# Altium footprint library EIA.TO,SOT.PcbLib: 17 footprints (part 1 of 2)
Each footprint in its own frame and in the unit in brackets; x right, y up, seen from the top. Pads: shape width x height; smd on the part's side, far side on the other; paste and mask are expansions set on the pad; w line width, h text height; cw(c..) or ccw(c..) is an arc to the next point about the centre after c.
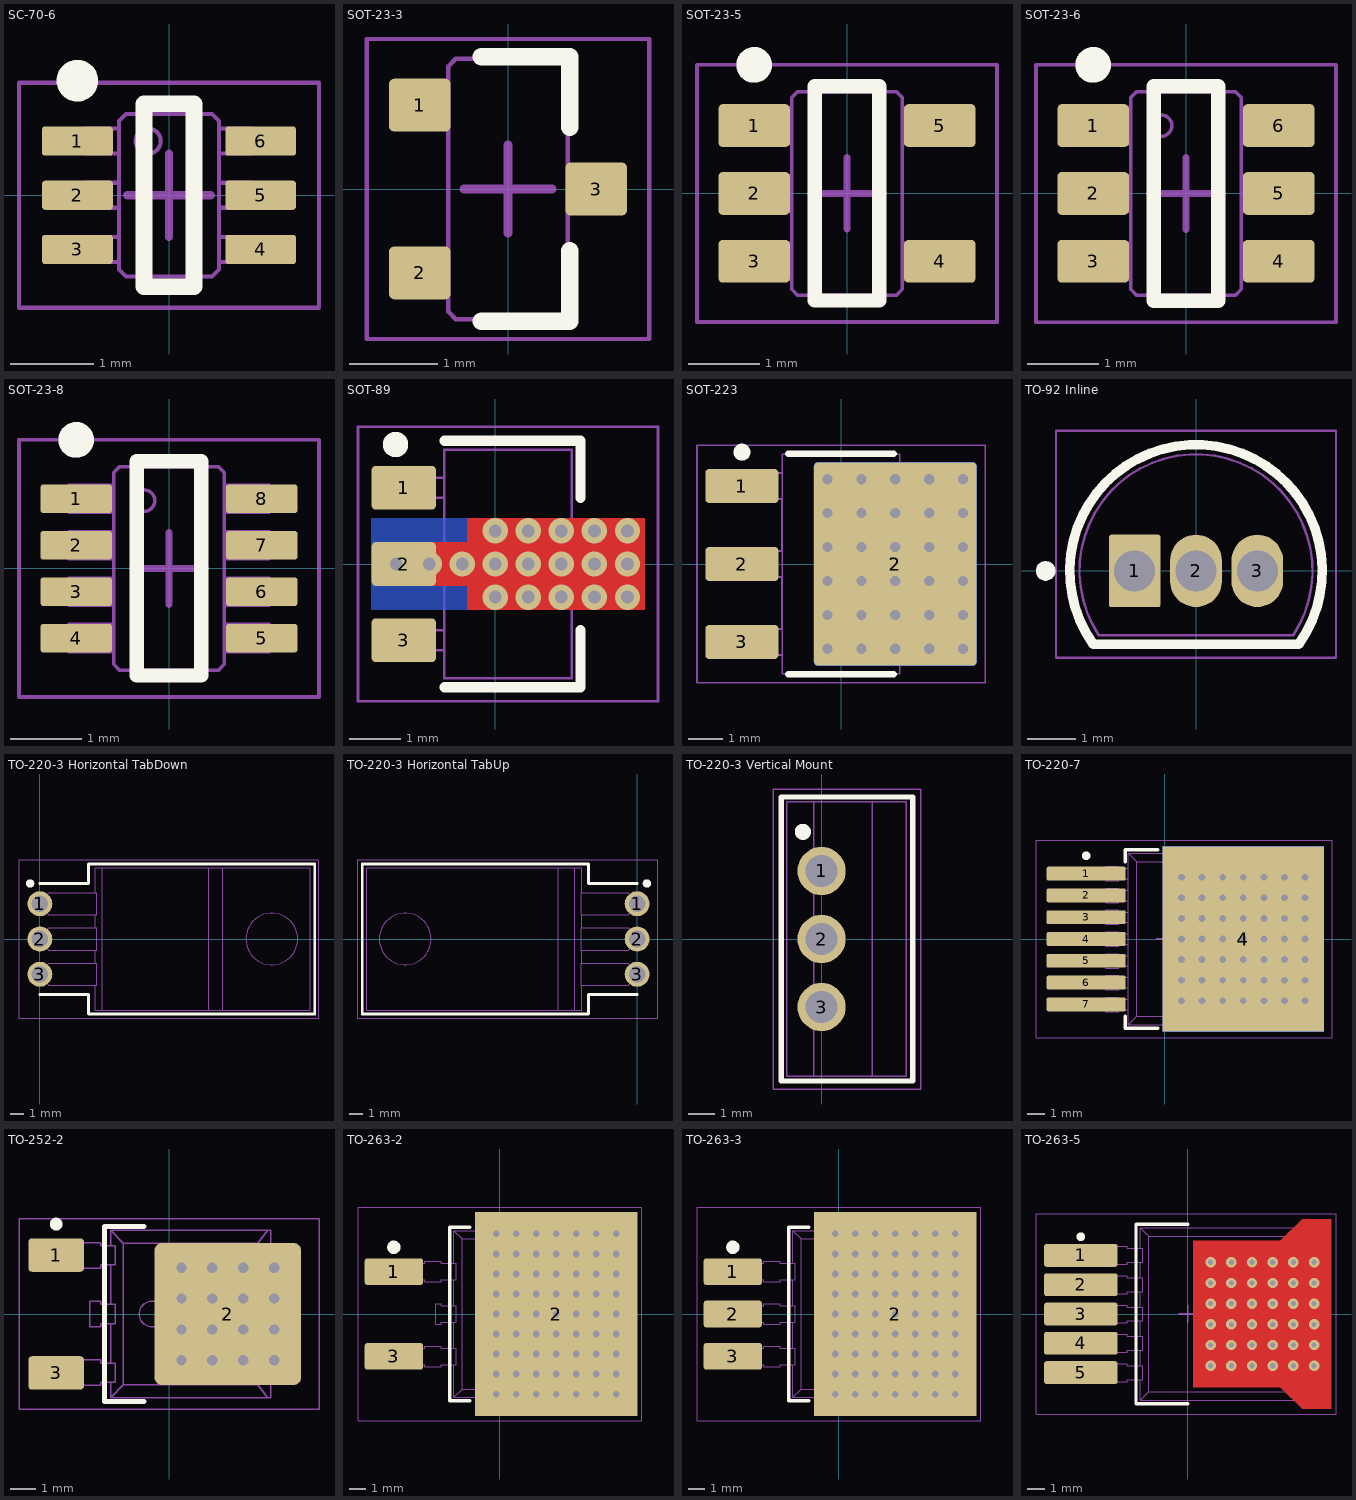
[diagram p0: the footprints below, top view; thin cyan lines are the x and y axes]

## SC-70-6 [mm] "SC70, 6-Leads, Body 2.00x1.25mm, Pitch 0.65mm, IPC Medium Density"
height 1.1
pads (6):
  rrect20% 0.85x0.35 smd: 1(-1.1,0.65) 2(-1.1,0) 3(-1.1,-0.65) 4(1.1,-0.65) 5(1.1,0) 6(1.1,0.65)
Top Overlay:
  circle w0.25: c-1.1,1.375 r0.125
  lines w0.2: -0.3,-1.1 0.3,-1.1 0.3,1.1 -0.3,1.1 -0.3,-1.1
Mechanical 1:
  circle w0.05: c-0.25,0.65 r0.15
  lines w0.05: -0.6,-0.8 -1,-0.8 -1,-0.5 -0.6,-0.5 ; -0.6,-0.15 -1,-0.15 -1,0.15 -0.6,0.15 ; -0.6,0.5 -1,0.5 -1,0.8 -0.6,0.8 ; 0.6,-0.8 1,-0.8 1,-0.5 0.6,-0.5 ; 0.6,-0.15 1,-0.15 1,0.15 0.6,0.15 ; 0.6,0.5 1,0.5 1,0.8 0.6,0.8 ; -0.6,-0.893 -0.517,-0.975 0.517,-0.975 0.6,-0.893 0.6,0.893 0.517,0.975 -0.517,0.975 -0.6,0.893 -0.6,-0.893
Mechanical 15:
  lines w0.05: -1.8,-1.35 1.8,-1.35 1.8,1.35 -1.8,1.35 -1.8,-1.35
  lines w0.1: -0.5,0 0.5,0 ; 0,-0.5 0,0.5
3D body "SOT-363_SC-70-6.step": height 1.05, standoff 0, extent -1,-1 1,1

## SOT-23-3 [mm] "SOT-23, 3-Leads, Body 2.90x2.30mm, Pitch 0.95mm, IPC Medium Density"
height 1.1
pads (3):
  rrect20% 0.7x0.6 smd: 1(-1,0.95) 2(-1,-0.95) 3(1,0)
Top Overlay:
  lines w0.2: -0.3,-1.5 0.7,-1.5 0.7,-0.7 ; -0.3,1.5 0.7,1.5 0.7,0.7
Mechanical 1:
  lines w0.05: -0.675,-1.15 -1.25,-1.15 -1.25,-0.75 -0.675,-0.75 ; -0.675,0.75 -1.25,0.75 -1.25,1.15 -0.675,1.15 ; 0.675,-0.2 1.25,-0.2 1.25,0.2 0.675,0.2 ; -0.675,-1.392 -0.675,1.392 -0.593,1.475 0.593,1.475 0.675,1.392 0.675,-1.392 0.593,-1.475 -0.593,-1.475 -0.675,-1.392
Mechanical 15:
  lines w0.05: -1.6,-1.7 1.6,-1.7 1.6,1.7 -1.6,1.7 -1.6,-1.7
  lines w0.1: -0.5,0 0.5,0 ; 0,-0.5 0,0.5
3D body "SOT-23.step": height 1.2, standoff 0, extent -1.25,-1.5 1.25,1.5

## SOT-23-5 [mm] "SOT-23, 5-Leads, Body 2.90x2.80mm, Pitch 0.95mm, IPC Medium Density"
height 1.45
pads (5):
  rrect20% 1x0.6 smd: 1(-1.3,0.95) 2(-1.3,0) 3(-1.3,-0.95) 4(1.3,-0.95) 5(1.3,0.95)
Top Overlay:
  circle w0.25: c-1.3,1.8 r0.125
  lines w0.2: -0.45,-1.5 0.45,-1.5 0.45,1.5 -0.45,1.5 -0.45,-1.5
Mechanical 1:
  lines w0.05: -0.775,-1.2 -1.4,-1.2 -1.4,-0.7 -0.775,-0.7 ; -0.775,-0.25 -1.4,-0.25 -1.4,0.25 -0.775,0.25 ; -0.775,0.7 -1.4,0.7 -1.4,1.2 -0.775,1.2 ; 0.775,-1.2 1.4,-1.2 1.4,-0.7 0.775,-0.7 ; 0.775,0.7 1.4,0.7 1.4,1.2 0.775,1.2 ; -0.775,-1.342 -0.775,1.342 -0.693,1.425 0.693,1.425 0.775,1.342 0.775,-1.342 0.693,-1.425 -0.693,-1.425 -0.775,-1.342
Mechanical 15:
  lines w0.05: -2.1,-1.8 2.1,-1.8 2.1,1.8 -2.1,1.8 -2.1,-1.8
  lines w0.1: -0.5,0 0.5,0 ; 0,-0.5 0,0.5
3D body "SOT-23-5.step": height 1.55, standoff 0, extent -1.4,-1.45 1.4,1.45

## SOT-23-6 [mm] "SOT-23, 6-Leads, Body 2.90x2.80mm, Pitch 0.95mm, IPC Medium Density"
height 1.45
pads (6):
  rrect20% 1x0.6 smd: 1(-1.3,0.95) 2(-1.3,0) 3(-1.3,-0.95) 4(1.3,-0.95) 5(1.3,0) 6(1.3,0.95)
Top Overlay:
  circle w0.25: c-1.3,1.8 r0.125
  lines w0.2: -0.45,-1.5 -0.45,1.5 0.45,1.5 0.45,-1.5 -0.45,-1.5
Mechanical 1:
  circle w0.05: c-0.35,0.95 r0.15
  lines w0.05: -0.775,-1.2 -1.4,-1.2 -1.4,-0.7 -0.775,-0.7 ; -0.775,-0.25 -1.4,-0.25 -1.4,0.25 -0.775,0.25 ; -0.775,0.7 -1.4,0.7 -1.4,1.2 -0.775,1.2 ; 0.775,-1.2 1.4,-1.2 1.4,-0.7 0.775,-0.7 ; 0.775,-0.25 1.4,-0.25 1.4,0.25 0.775,0.25 ; 0.775,0.7 1.4,0.7 1.4,1.2 0.775,1.2 ; -0.775,-1.342 -0.693,-1.425 0.693,-1.425 0.775,-1.342 0.775,1.342 0.693,1.425 -0.693,1.425 -0.775,1.342 -0.775,-1.342
Mechanical 15:
  lines w0.05: -2.1,-1.8 2.1,-1.8 2.1,1.8 -2.1,1.8 -2.1,-1.8
  lines w0.1: -0.5,0 0.5,0 ; 0,-0.5 0,0.5
3D body "SOT-23-6.step": height 1.55, standoff 0, extent -1.4,-1.45 1.4,1.45

## SOT-23-8 [mm] "SOT-23, 8-Leads, Body 2.90x1.60mm, Pitch 0.65mm, IPC Medium Density"
height 1.45
pads (8):
  rrect20% 1x0.4 smd: 1(-1.3,0.975) 2(-1.3,0.325) 3(-1.3,-0.325) 4(-1.3,-0.975) 5(1.3,-0.975) 6(1.3,-0.325) 7(1.3,0.325) 8(1.3,0.975)
Top Overlay:
  circle w0.25: c-1.3,1.8 r0.125
  lines w0.2: -0.45,-1.5 -0.45,1.5 0.45,1.5 0.45,-1.5 -0.45,-1.5
Mechanical 1:
  circle w0.05: c-0.35,0.95 r0.15
  lines w0.05: -0.775,-1.165 -1.4,-1.165 -1.4,-0.785 -0.775,-0.785 ; -0.775,-0.515 -1.4,-0.515 -1.4,-0.135 -0.775,-0.135 ; -0.775,0.135 -1.4,0.135 -1.4,0.515 -0.775,0.515 ; -0.775,0.785 -1.4,0.785 -1.4,1.165 -0.775,1.165 ; 0.775,-1.165 1.4,-1.165 1.4,-0.785 0.775,-0.785 ; 0.775,-0.515 1.4,-0.515 1.4,-0.135 0.775,-0.135 ; 0.775,0.135 1.4,0.135 1.4,0.515 0.775,0.515 ; 0.775,0.785 1.4,0.785 1.4,1.165 0.775,1.165 ; -0.775,-1.342 -0.693,-1.425 0.693,-1.425 0.775,-1.342 0.775,1.342 0.693,1.425 -0.693,1.425 -0.775,1.342 -0.775,-1.342
Mechanical 15:
  lines w0.05: -2.1,-1.8 -2.1,1.8 2.1,1.8 2.1,-1.8 -2.1,-1.8
  lines w0.1: -0.5,0 0.5,0 ; 0,-0.5 0,0.5
3D body "SOT-23-8.step": height 1.2, standoff 0, extent -1.4,-1.45 1.4,1.45

## SOT-89 [mm] "SOT89, 3-Leads, Body 4.50x2.45mm, Pitch 1.50mm, Lead Span 4.1mm, IPC Medium Density"
height 1.6
pads (4):
  rrect20% 1.27x0.86 smd: 1(-1.8,1.5) 2(-1.8,0) 3(-1.8,-1.5)
  round 0.025 smd: 2(0.567,0)
via -1.95,0 diameter 0.5 hole 0.25
via -1.3,0 diameter 0.5 hole 0.25
via -0.65,0 diameter 0.5 hole 0.25
via 0,0 diameter 0.5 hole 0.25
via 0,-0.65 diameter 0.5 hole 0.25
via 1.3,0 diameter 0.5 hole 0.25
via 1.3,0.65 diameter 0.5 hole 0.25
via 1.3,-0.65 diameter 0.5 hole 0.25
via 1.95,0 diameter 0.5 hole 0.25
via 1.95,0.65 diameter 0.5 hole 0.25
via 1.95,-0.65 diameter 0.5 hole 0.25
via 2.6,0 diameter 0.5 hole 0.25
via 2.6,0.65 diameter 0.5 hole 0.25
via 2.6,-0.65 diameter 0.5 hole 0.25
via 0,0.65 diameter 0.5 hole 0.25
via 0.65,-0.65 diameter 0.5 hole 0.25
via 0.65,0 diameter 0.5 hole 0.25
via 0.65,0.65 diameter 0.5 hole 0.25
Top Layer:
  region: -1.8,-0.43 -1.8,0.43 -0.549,0.43 -0.549,0.9 2.935,0.9 2.935,-0.9 -0.549,-0.9 -0.549,-0.43
Bottom Layer:
  region: -2.435,-0.9 -2.435,0.9 2.935,0.9 2.935,-0.9
Top Overlay:
  circle w0.25: c-1.963,2.35 r0.125
  lines w0.2: -1,-2.425 1.675,-2.425 1.675,-1.3 ; -1,2.425 1.675,2.425 1.675,1.3
Mechanical 1:
  lines w0.05: -1,-1.7 -2,-1.7 -2,-1.3 -1,-1.3 ; -1,-0.2 -2,-0.2 -2,0.2 -1,0.2 ; -1,1.3 -2,1.3 -2,1.7 -1,1.7 ; 1.5,-0.8 1.85,-0.8 2,-0.56 2,0.56 1.85,0.8 1.5,0.8 ; -1,-2.25 1.5,-2.25 1.5,2.25 -1,2.25 -1,-2.25
Mechanical 15:
  lines w0.05: -2.7,-2.7 3.2,-2.7 3.2,2.7 -2.7,2.7 -2.7,-2.7
  lines w0.1: -0.513,0 0.487,0 ; -0.013,-0.5 -0.013,0.5
3D body "SOT-89-3.step": height 1.52, standoff 0, extent -2,-2.25 2,2.25

## SOT-223 [mm] "SOT223, 4-Leads, Body 6.50x7.00mm (avg), Pitch 2.30mm, IPC Medium Density"
height 1.7
pads (5):
  rrect20% 2.15x1 smd: 1(-2.925,2.3) 2(-2.925,0) 3(-2.925,-2.3)
  rrect5% 4.8x6 smd: 2(1.6,0)
  rrect5% 4.8x6 smd far side paste-2539.97: 2(1.6,0)
via 3.6,-2.5 diameter 0.6 hole 0.3
via 3.6,-1.5 diameter 0.6 hole 0.3
via 3.6,-0.5 diameter 0.6 hole 0.3
via 3.6,0.5 diameter 0.6 hole 0.3
via 3.6,1.5 diameter 0.6 hole 0.3
via 3.6,2.5 diameter 0.6 hole 0.3
via -0.4,-2.5 diameter 0.6 hole 0.3
via -0.4,-1.5 diameter 0.6 hole 0.3
via -0.4,2.5 diameter 0.6 hole 0.3
via -0.4,1.5 diameter 0.6 hole 0.3
via -0.4,0.5 diameter 0.6 hole 0.3
via -0.4,-0.5 diameter 0.6 hole 0.3
via 0.6,-2.5 diameter 0.6 hole 0.3
via 0.6,-1.5 diameter 0.6 hole 0.3
via 0.6,2.5 diameter 0.6 hole 0.3
via 0.6,1.5 diameter 0.6 hole 0.3
via 1.6,-2.5 diameter 0.6 hole 0.3
via 2.6,-2.5 diameter 0.6 hole 0.3
via 1.6,-1.5 diameter 0.6 hole 0.3
via 2.6,-1.5 diameter 0.6 hole 0.3
via 1.6,2.5 diameter 0.6 hole 0.3
via 1.6,1.5 diameter 0.6 hole 0.3
via 0.6,0.5 diameter 0.6 hole 0.3
via 1.6,0.5 diameter 0.6 hole 0.3
via 1.6,-0.5 diameter 0.6 hole 0.3
via 0.6,-0.5 diameter 0.6 hole 0.3
via 2.6,-0.5 diameter 0.6 hole 0.3
via 2.6,0.5 diameter 0.6 hole 0.3
via 2.6,1.5 diameter 0.6 hole 0.3
via 2.6,2.5 diameter 0.6 hole 0.3
Top Overlay:
  circle w0.25: c-2.925,3.3 r0.125
  lines w0.2: -1.55,-3.25 1.55,-3.25 ; -1.55,3.25 1.55,3.25
Mechanical 1:
  lines w0.05: -1.75,-1.917 -1.75,-0.383 ; -1.75,0.383 -1.75,1.917 ; -1.735,-2.683 -3.5,-2.683 -3.5,-1.917 -1.735,-1.917 ; -1.735,-0.383 -3.5,-0.383 -3.5,0.383 -1.735,0.383 ; -1.735,1.917 -3.5,1.917 -3.5,2.683 -1.735,2.683 ; 1.735,-1.15 3.5,-1.15 3.5,1.15 1.735,1.15 ; -1.735,-3.235 1.735,-3.235 1.735,3.235 -1.735,3.235 -1.735,-3.235
Mechanical 15:
  lines w0.05: -4.25,-3.5 -4.25,3.5 4.25,3.5 4.25,-3.5 -4.25,-3.5
  lines w0.1: -0.5,0 0.5,0 ; 0,-0.5 0,0.5
3D body "SOT-223.step": height 1.7, standoff 0, extent -3.5,-3.25 3.5,3.25

## TO-92 Inline [mm] "TO-92 Package, Vertical Mount"
height 7.3
pads (3):
  rrect9% 1.07x1.5 hole 0.85: 1(-1.27,0)
  oval 1.07x1.5 hole 0.85: 2(0,0) 3(1.27,0)
Top Overlay:
  region: -3.115,0.2 -3.089,0.2 -3.038,0.186 -2.992,0.16 -2.955,0.123 -2.929,0.077 -2.915,0.026 -2.915,-0.026 -2.929,-0.077 -2.955,-0.123 -2.992,-0.16 -3.038,-0.186 -3.089,-0.2 -3.115,-0.2 -3.141,-0.2 -3.192,-0.186 -3.238,-0.16 -3.275,-0.123 -3.301,-0.077 -3.315,-0.026 -3.315,0.026 -3.301,0.077 -3.275,0.123 -3.238,0.16 -3.192,0.186 -3.141,0.2
  lines w0.2: -2.128,-1.52 cw(c0,0) 2.128,-1.52 -2.128,-1.52
Mechanical 1:
  lines w0.05: -2.016,-1.33 cw(c0,0) 2.016,-1.33 -2.016,-1.33
Mechanical 15:
  lines w0.05: -2.9,-1.8 -2.9,2.9 2.9,2.9 2.9,-1.8 -2.9,-1.8
  lines w0.1: -0.5,0 0.5,0 ; 0,-0.5 0,0.5
3D body "TO-92_Inline.step": height 7.3, standoff -2.5, extent -2.415,-1.33 2.415,2.415

## TO-220-3 Horizontal TabDown [mm] "TO-220 Package, 3 Leads, Horizontal Downward"
height 4.4
pads (3):
  round 1.8 hole 1.2: 1(0,2.54) 2(0,0) 3(0,-2.54)
Top Overlay:
  circle w0.3: c-0.7,4 r0.15
  lines w0.2: 0,-4 3.5,-4 3.5,-5.4 19.8,-5.4 19.8,5.4 3.5,5.4 3.5,4 0,4
Mechanical 1:
  circle w0.05: c16.705,0 r1.867
  lines w0.05: 0.238,-2.967 0.238,-2.113 ; 0.238,-0.427 0.238,0.427 ; 0.238,2.113 0.238,2.967 ; 0.262,2.113 0.262,2.967 ; 3.985,-3.34 3.985,-5.125 13.175,-5.125 13.175,5.125 3.985,5.125 3.985,3.34 ; 3.985,-1.74 3.985,-0.8 ; 3.985,0.8 3.985,1.74 ; 4.485,-5.125 4.485,5.125 ; 12.175,-5.125 12.175,5.125 ; 13.175,-5.115 19.475,-5.115 19.475,5.115 13.175,5.115 ; 0.262,-2.967 0.635,-3.34 4.086,-3.34 4.086,-1.74 0.635,-1.74 0.262,-2.113 ; 0.262,-2.967 0.262,-2.113 ; 0.262,-2.967 -0.262,-2.967 -0.262,-2.113 0.262,-2.113 ; 0.262,-0.427 0.635,-0.8 4.086,-0.8 4.086,0.8 0.635,0.8 0.262,0.427 ; 0.262,-0.427 0.262,0.427 ; 0.262,-0.427 -0.262,-0.427 -0.262,0.427 0.262,0.427 ; -0.262,2.113 -0.262,2.967 0.266,2.967 0.638,3.34 4.086,3.34 4.086,1.74 0.638,1.74 0.266,2.113 -0.262,2.113
Mechanical 15:
  lines w0.05: -1.5,-5.7 20.1,-5.7 20.1,5.7 -1.5,5.7 -1.5,-5.7
  lines w0.1: -0.5,0 0.5,0 ; 0,-0.5 0,0.5
3D body "TO-220-3_Horizontal_TabDown.step": height 4.44, standoff -6.33, extent -0.262,-5.125 19.475,5.125

## TO-220-3 Horizontal TabUp [mm] "TO-220 Package, 3 Lead, Horizontal Mount, Pad Upward"
height 4.4
pads (3):
  round 1.8 hole 1.2: 1(0,2.54) 2(0,0) 3(0,-2.54)
Top Overlay:
  circle w0.3: c0.7,4 r0.15
  lines w0.2: 0,-4 -3.5,-4 -3.5,-5.4 -19.8,-5.4 -19.8,5.4 -3.5,5.4 -3.5,4 0,4
Mechanical 1:
  circle w0.05: c-16.705,0 r1.867
  lines w0.05: -13.175,-5.115 -13.175,-5.125 -3.985,-5.125 -3.985,-3.34 ; -13.175,5.115 -13.175,5.125 -3.985,5.125 -3.985,3.34 ; -4.485,-5.125 -4.485,5.125 ; -3.985,-1.74 -3.985,-0.8 ; -3.985,0.8 -3.985,1.74 ; -0.262,-2.967 -0.262,-2.113 ; -0.238,-2.967 -0.238,-2.113 ; -0.238,-0.427 -0.238,0.427 ; -0.238,2.113 -0.238,2.967 ; -0.262,-0.427 0.262,-0.427 0.262,0.427 -0.262,0.427 ; -0.262,-0.427 -0.262,0.427 ; -0.262,-0.427 -0.635,-0.8 -4.035,-0.8 -4.035,0.8 -0.635,0.8 -0.262,0.427 ; -0.262,2.113 0.262,2.113 0.262,2.967 -0.262,2.967 ; -0.262,2.113 -0.262,2.967 ; -0.262,2.113 -0.635,1.74 -4.035,1.74 -4.035,3.34 -0.635,3.34 -0.262,2.967 ; -19.475,-5.115 -19.475,5.115 -5.7,5.115 -5.7,-5.115 -19.475,-5.115 ; -4.035,-3.34 -4.035,-1.74 -0.638,-1.74 -0.266,-2.113 0.262,-2.113 0.262,-2.967 -0.266,-2.967 -0.638,-3.34 -4.035,-3.34
Mechanical 15:
  lines w0.05: -20.1,-5.7 -20.1,5.7 1.5,5.7 1.5,-5.7 -20.1,-5.7
  lines w0.1: -0.5,0 0.5,0 ; 0,-0.5 0,0.5
3D body "TO-220-3_Horizontal_TabUp.step": height 4.45, standoff -8.13, extent -19.475,-5.125 0.263,5.125

## TO-220-3 Vertical Mount [mm] "TO-220 Package, 3 Leads, Vertical Mount"
height 16.4
pads (3):
  round 1.8 hole 1.2: 1(0,2.54) 2(0,0) 3(0,-2.54)
Top Overlay:
  circle w0.3: c-0.7,4 r0.15
  lines w0.2: -1.5,-5.3 3.4,-5.3 3.4,5.3 -1.5,5.3 -1.5,-5.3
Mechanical 1:
  lines w0.05: -0.295,-5.125 -0.295,5.125 ; 3.15,-5.115 3.15,-5.125 -1.295,-5.125 -1.295,5.125 3.15,5.125 3.15,5.115 ; 1.89,-5.115 1.89,5.115 3.16,5.115 3.16,-5.115 1.89,-5.115
Mechanical 15:
  lines w0.05: -1.8,-5.6 3.7,-5.6 3.7,5.6 -1.8,5.6 -1.8,-5.6
  lines w0.1: -0.5,0 0.5,0 ; 0,-0.5 0,0.5
3D body "TO-220-3_Vertical.step": height 18.77, standoff -9.75, extent -1.295,-5.125 3.16,5.125

## TO-220-7 [mm] "TO-220, 7-Leads, Body 10.00x9.25mm, Pitch 1.27mm"
height 4.4
pads (9):
  rrect20% 4.6x0.8 smd: 1(-4.575,3.81) 2(-4.575,2.54) 3(-4.575,1.27) 4(-4.575,0) 5(-4.575,-1.27) 6(-4.575,-2.54) 7(-4.575,-3.81)
  rect 9.4x10.8 smd: 4(4.575,0)
  rect 9.4x10.8 smd far side paste-2539.97: 4(4.575,0)
via 0.975,-3.6 diameter 0.8 hole 0.4
via 2.175,-3.6 diameter 0.8 hole 0.4
via 3.375,-3.6 diameter 0.8 hole 0.4
via 8.175,-3.6 diameter 0.8 hole 0.4
via 6.975,-3.6 diameter 0.8 hole 0.4
via 5.775,-3.6 diameter 0.8 hole 0.4
via 4.575,-3.6 diameter 0.8 hole 0.4
via 0.975,-2.4 diameter 0.8 hole 0.4
via 2.175,-2.4 diameter 0.8 hole 0.4
via 3.375,-2.4 diameter 0.8 hole 0.4
via 8.175,-2.4 diameter 0.8 hole 0.4
via 6.975,-2.4 diameter 0.8 hole 0.4
via 5.775,-2.4 diameter 0.8 hole 0.4
via 4.575,-2.4 diameter 0.8 hole 0.4
via 0.975,-1.2 diameter 0.8 hole 0.4
via 2.175,-1.2 diameter 0.8 hole 0.4
via 3.375,-1.2 diameter 0.8 hole 0.4
via 8.175,-1.2 diameter 0.8 hole 0.4
via 6.975,-1.2 diameter 0.8 hole 0.4
via 5.775,-1.2 diameter 0.8 hole 0.4
via 4.575,-1.2 diameter 0.8 hole 0.4
via 0.975,3.6 diameter 0.8 hole 0.4
via 2.175,3.6 diameter 0.8 hole 0.4
via 3.375,3.6 diameter 0.8 hole 0.4
via 8.175,3.6 diameter 0.8 hole 0.4
via 6.975,3.6 diameter 0.8 hole 0.4
via 5.775,3.6 diameter 0.8 hole 0.4
via 4.575,3.6 diameter 0.8 hole 0.4
via 0.975,2.4 diameter 0.8 hole 0.4
via 2.175,2.4 diameter 0.8 hole 0.4
via 3.375,2.4 diameter 0.8 hole 0.4
via 8.175,2.4 diameter 0.8 hole 0.4
via 6.975,2.4 diameter 0.8 hole 0.4
via 5.775,2.4 diameter 0.8 hole 0.4
via 4.575,2.4 diameter 0.8 hole 0.4
via 0.975,1.2 diameter 0.8 hole 0.4
via 2.175,1.2 diameter 0.8 hole 0.4
via 3.375,1.2 diameter 0.8 hole 0.4
via 8.175,1.2 diameter 0.8 hole 0.4
via 6.975,1.2 diameter 0.8 hole 0.4
via 5.775,1.2 diameter 0.8 hole 0.4
via 4.575,1.2 diameter 0.8 hole 0.4
via 0.975,0 diameter 0.8 hole 0.4
via 2.175,0 diameter 0.8 hole 0.4
via 3.375,0 diameter 0.8 hole 0.4
via 8.175,0 diameter 0.8 hole 0.4
via 6.975,0 diameter 0.8 hole 0.4
via 5.775,0 diameter 0.8 hole 0.4
via 4.575,0 diameter 0.8 hole 0.4
Top Overlay:
  circle w0.25: c-4.575,4.85 r0.125
  lines w0.2: -2.3,-4.5 -2.3,-5.2 -0.4,-5.2 ; -2.3,4.5 -2.3,5.2 -0.4,5.2
Mechanical 1:
  circle w0.05: c2.5,0 r1.25
  lines w0.05: -4.375,-4.11 -4.375,-3.51 ; -4.375,-2.84 -4.375,-2.24 ; -4.375,-1.57 -4.375,-0.97 ; -4.375,-0.3 -4.375,0.3 ; -4.375,0.97 -4.375,1.57 ; -4.375,2.24 -4.375,2.84 ; -4.375,3.51 -4.375,4.11 ; -4.125,-4.11 -4.125,-3.51 ; -4.125,-2.84 -4.125,-2.24 ; -4.125,-1.57 -4.125,-0.97 ; -4.125,-0.3 -4.125,0.3 ; -4.125,0.97 -4.125,1.57 ; -4.125,2.24 -4.125,2.84 ; -4.125,3.51 -4.125,4.11 ; -2.125,-4.11 -2.675,-4.11 -2.675,-4.23 -3.425,-4.23 -3.425,-4.11 -5.725,-4.11 -5.725,-3.51 -3.425,-3.51 -3.425,-3.39 -2.675,-3.39 -2.675,-3.51 -2.125,-3.51 ; -2.125,-2.84 -2.675,-2.84 -2.675,-2.96 -3.425,-2.96 -3.425,-2.84 -5.725,-2.84 -5.725,-2.24 -3.425,-2.24 -3.425,-2.12 -2.675,-2.12 -2.675,-2.24 -2.125,-2.24 ; -2.125,-1.57 -2.675,-1.57 -2.675,-1.69 -3.425,-1.69 -3.425,-1.57 -5.725,-1.57 -5.725,-0.97 -3.425,-0.97 -3.425,-0.85 -2.675,-0.85 -2.675,-0.97 -2.125,-0.97 ; -2.125,-0.3 -2.675,-0.3 -2.675,-0.42 -3.425,-0.42 -3.425,-0.3 -5.725,-0.3 -5.725,0.3 -3.425,0.3 -3.425,0.42 -2.675,0.42 -2.675,0.3 -2.125,0.3 ; -2.125,0.97 -2.675,0.97 -2.675,0.85 -3.425,0.85 -3.425,0.97 -5.725,0.97 -5.725,1.57 -3.425,1.57 -3.425,1.69 -2.675,1.69 -2.675,1.57 -2.125,1.57 ; -2.125,2.24 -2.675,2.24 -2.675,2.12 -3.425,2.12 -3.425,2.24 -5.725,2.24 -5.725,2.84 -3.425,2.84 -3.425,2.96 -2.675,2.96 -2.675,2.84 -2.125,2.84 ; -2.125,3.51 -2.675,3.51 -2.675,3.39 -3.425,3.39 -3.425,3.51 -5.725,3.51 -5.725,4.11 -3.425,4.11 -3.425,4.23 -2.675,4.23 -2.675,4.11 -2.125,4.11 ; 6.944,-5 6.625,-4.5 ; 6.944,5 6.625,4.5 ; 7.125,-5 7.125,5 ; -2.125,-5 -1.625,-4.5 ; -2.125,-5 7.625,-5 8.125,-3.5 8.125,3.5 7.625,5 -2.125,5 ; -2.125,-5 -2.125,5 ; -2.125,5 -1.625,4.5 ; -1.625,-4.5 6.625,-4.5 ; -1.625,-4.5 -1.625,4.5 ; -1.625,4.5 6.625,4.5 ; 6.625,-4.5 6.625,4.5
Mechanical 15:
  lines w0.05: -7.5,-5.75 9.75,-5.75 9.75,5.75 -7.5,5.75 -7.5,-5.75
  lines w0.1: -0.5,0 0.5,0 ; 0,-0.5 0,0.5
3D body "TO-220-7Lead_TabPin8.step": height 4.42, standoff 0, extent -5.725,-5 8.125,5

## TO-252-2 [mm] "TO-252, 3-Pads, Body 6.21x6.73mm (max), IPC Medium Density"
height 2.55
pads (3):
  rrect20% 2.15x1.3 smd: 1(-4.38,2.29) 3(-4.38,-2.29)
  rrect10% 5.7x5.5 smd: 2(2.285,0)
via 1.685,0.6 diameter 0.8 hole 0.4
via 2.885,0.6 diameter 0.8 hole 0.4
via 4.085,0.6 diameter 0.8 hole 0.4
via 2.885,1.8 diameter 0.8 hole 0.4
via 2.885,-0.6 diameter 0.8 hole 0.4
via 0.485,0.6 diameter 0.8 hole 0.4
via 2.885,-1.8 diameter 0.8 hole 0.4
via 1.685,1.8 diameter 0.8 hole 0.4
via 4.085,1.8 diameter 0.8 hole 0.4
via 0.485,1.8 diameter 0.8 hole 0.4
via 1.685,-0.6 diameter 0.8 hole 0.4
via 4.085,-0.6 diameter 0.8 hole 0.4
via 0.485,-0.6 diameter 0.8 hole 0.4
via 1.685,-1.8 diameter 0.8 hole 0.4
via 4.085,-1.8 diameter 0.8 hole 0.4
via 0.485,-1.8 diameter 0.8 hole 0.4
Top Overlay:
  circle w0.25: c-4.38,3.49 r0.125
  lines w0.2: -0.965,-3.4 -2.5,-3.4 -2.5,3.4 -0.965,3.4
Mechanical 1:
  circle w0.05: c-0.66,0 r0.5
  lines w0.05: -2.27,-2.655 -2.27,-3.25 ; -2.27,-1.905 -2.27,-0.375 ; -2.27,0.375 -2.27,1.905 ; -2.27,2.655 -2.27,3.25 ; 3.839,-3.25 3.45,-2.75 ; 3.839,3.25 3.45,2.75 ; 3.95,-2.7 4.91,-2.7 ccw(c4.91,-2.66) 4.95,-2.66 4.95,-1.97 cw(c4.95,-1.89) 4.87,-1.89 4.87,1.89 cw(c4.95,1.89) 4.95,1.97 4.95,2.66 ccw(c4.91,2.66) 4.91,2.7 3.95,2.7 ; -2.27,-3.25 3.95,-3.25 3.95,3.25 -2.27,3.25 ; -2.27,-3.25 -1.77,-2.75 ; -2.27,3.25 -1.77,2.75 ; -1.77,-2.75 -1.77,2.75 ; -1.77,-2.75 3.45,-2.75 ; -1.77,2.75 3.45,2.75 ; 3.45,-2.75 3.45,2.75 ; -4.95,-2.655 -4.95,-1.905 -3.4,-1.905 -3.4,-1.785 -2.65,-1.785 -2.65,-1.905 -2.084,-1.905 -2.084,-2.655 -2.65,-2.655 -2.65,-2.775 -3.4,-2.775 -3.4,-2.655 -4.95,-2.655 ; -4.95,1.905 -4.95,2.655 -3.4,2.655 -3.4,2.775 -2.65,2.775 -2.65,2.655 -2.084,2.655 -2.084,1.905 -2.65,1.905 -2.65,1.785 -3.4,1.785 -3.4,1.905 -4.95,1.905 ; -3.07,-0.495 -3.07,0.495 -2.65,0.495 -2.65,0.375 -2.084,0.375 -2.084,-0.375 -2.65,-0.375 -2.65,-0.495 -3.07,-0.495
Mechanical 15:
  lines w0.05: -5.825,-3.7 5.825,-3.7 5.825,3.7 -5.825,3.7 -5.825,-3.7
  lines w0.1: -0.5,0 0.5,0 ; 0,-0.5 0,0.5
3D body "TO-252-2.step": height 2.32, standoff 0, extent -4.95,-3.25 4.95,3.25

## TO-263-2 [mm] "TO-263-2, 3-Pads, Body 7.78x8.56mm (max), IPC Medium Density"
height 4.6
pads (3):
  rrect20% 3.5x1.6 smd: 1(-6.35,2.54) 3(-6.35,-2.54)
  rect 9.75x12.2 smd: 2(3.375,0)
via 2.175,-4.8 diameter 0.8 hole 0.4
via 0.975,-4.8 diameter 0.8 hole 0.4
via -0.225,-4.8 diameter 0.8 hole 0.4
via 5.775,-4.8 diameter 0.8 hole 0.4
via 4.575,-4.8 diameter 0.8 hole 0.4
via 3.375,-4.8 diameter 0.8 hole 0.4
via 6.975,-4.8 diameter 0.8 hole 0.4
via 2.175,-3.6 diameter 0.8 hole 0.4
via 0.975,-3.6 diameter 0.8 hole 0.4
via -0.225,-3.6 diameter 0.8 hole 0.4
via 5.775,-3.6 diameter 0.8 hole 0.4
via 4.575,-3.6 diameter 0.8 hole 0.4
via 3.375,-3.6 diameter 0.8 hole 0.4
via 6.975,-3.6 diameter 0.8 hole 0.4
via 2.175,-2.4 diameter 0.8 hole 0.4
via 0.975,-2.4 diameter 0.8 hole 0.4
via -0.225,-2.4 diameter 0.8 hole 0.4
via 5.775,-2.4 diameter 0.8 hole 0.4
via 4.575,-2.4 diameter 0.8 hole 0.4
via 3.375,-2.4 diameter 0.8 hole 0.4
via 6.975,-2.4 diameter 0.8 hole 0.4
via 2.175,-1.2 diameter 0.8 hole 0.4
via 0.975,-1.2 diameter 0.8 hole 0.4
via -0.225,-1.2 diameter 0.8 hole 0.4
via 5.775,-1.2 diameter 0.8 hole 0.4
via 4.575,-1.2 diameter 0.8 hole 0.4
via 3.375,-1.2 diameter 0.8 hole 0.4
via 6.975,-1.2 diameter 0.8 hole 0.4
via 2.175,4.8 diameter 0.8 hole 0.4
via 0.975,4.8 diameter 0.8 hole 0.4
via -0.225,4.8 diameter 0.8 hole 0.4
via 5.775,4.8 diameter 0.8 hole 0.4
via 4.575,4.8 diameter 0.8 hole 0.4
via 3.375,4.8 diameter 0.8 hole 0.4
via 6.975,4.8 diameter 0.8 hole 0.4
via 2.175,3.6 diameter 0.8 hole 0.4
via 0.975,3.6 diameter 0.8 hole 0.4
via -0.225,3.6 diameter 0.8 hole 0.4
via 5.775,3.6 diameter 0.8 hole 0.4
via 4.575,3.6 diameter 0.8 hole 0.4
via 3.375,3.6 diameter 0.8 hole 0.4
via 6.975,3.6 diameter 0.8 hole 0.4
via 2.175,2.4 diameter 0.8 hole 0.4
via 0.975,2.4 diameter 0.8 hole 0.4
via -0.225,2.4 diameter 0.8 hole 0.4
via 5.775,2.4 diameter 0.8 hole 0.4
via 4.575,2.4 diameter 0.8 hole 0.4
via 3.375,2.4 diameter 0.8 hole 0.4
via 6.975,2.4 diameter 0.8 hole 0.4
via 2.175,1.2 diameter 0.8 hole 0.4
via 0.975,1.2 diameter 0.8 hole 0.4
via -0.225,1.2 diameter 0.8 hole 0.4
via 5.775,1.2 diameter 0.8 hole 0.4
via 4.575,1.2 diameter 0.8 hole 0.4
via 3.375,1.2 diameter 0.8 hole 0.4
via 6.975,1.2 diameter 0.8 hole 0.4
via -0.225,0 diameter 0.8 hole 0.4
via 0.975,0 diameter 0.8 hole 0.4
via 6.975,0 diameter 0.8 hole 0.4
via 5.775,0 diameter 0.8 hole 0.4
via 4.575,0 diameter 0.8 hole 0.4
via 3.375,0 diameter 0.8 hole 0.4
via 2.175,0 diameter 0.8 hole 0.4
Top Overlay:
  circle w0.4: c-6.35,4 r0.2
  lines w0.2: -1.8,-5.2 -3,-5.2 -3,5.2 -1.8,5.2
Mechanical 1:
  circle w0.05: c1.875,0 r1.25
  lines w0.05: -2.75,-3.04 -2.75,-5 ; -2.75,-2.04 -2.75,-0.5 ; -2.75,0.5 -2.75,2.04 ; -2.75,3.04 -2.75,5 ; 6.319,-5 6,-4.5 ; 6.319,5 6,4.5 ; 6.5,-5 6.5,5 ; -2.75,-5 7.2,-5 7.5,-3.5 7.5,3.5 7.2,5 -2.75,5 ; -2.75,-5 -2.25,-4.5 ; -2.75,5 -2.25,4.5 ; -2.25,-4.5 6,-4.5 ; -2.25,-4.5 -2.25,4.5 ; -2.25,4.5 6,4.5 ; 6,-4.5 6,4.5 ; -7.5,-3.04 -4.5,-3.04 -4.5,-3.16 -3.5,-3.16 -3.5,-3.04 -2.618,-3.04 -2.618,-2.04 -3.5,-2.04 -3.5,-1.92 -4.5,-1.92 -4.5,-2.04 -7.5,-2.04 -7.5,-3.04 ; -7.5,2.04 -4.5,2.04 -4.5,1.92 -3.5,1.92 -3.5,2.04 -2.618,2.04 -2.618,3.04 -3.5,3.04 -3.5,3.16 -4.5,3.16 -4.5,3.04 -7.5,3.04 -7.5,2.04 ; -3.85,-0.62 -3.85,0.62 -3.5,0.62 -3.5,0.5 -2.618,0.5 -2.618,-0.5 -3.5,-0.5 -3.5,-0.62 -3.85,-0.62
Mechanical 15:
  lines w0.05: -8.5,-6.4 -8.5,6.4 8.5,6.4 8.5,-6.4 -8.5,-6.4
  lines w0.1: -0.5,0 0.5,0 ; 0,-0.5 0,0.5
3D body "TO-263-2.step": height 4.42, standoff 0, extent -7.5,-5 7.5,5

## TO-263-3 [mm] "TO-263-3, 4-Pads, Body 7.78x8.56mm (max), IPC Medium Density"
height 4.6
pads (4):
  rrect20% 3.5x1.6 smd: 1(-6.35,2.54) 2(-6.35,0) 3(-6.35,-2.54)
  rect 9.75x12.2 smd: 2(3.375,0)
via 2.175,-4.8 diameter 0.8 hole 0.4
via 0.975,-4.8 diameter 0.8 hole 0.4
via -0.225,-4.8 diameter 0.8 hole 0.4
via 5.775,-4.8 diameter 0.8 hole 0.4
via 4.575,-4.8 diameter 0.8 hole 0.4
via 3.375,-4.8 diameter 0.8 hole 0.4
via 6.975,-4.8 diameter 0.8 hole 0.4
via 2.175,-3.6 diameter 0.8 hole 0.4
via 0.975,-3.6 diameter 0.8 hole 0.4
via -0.225,-3.6 diameter 0.8 hole 0.4
via 5.775,-3.6 diameter 0.8 hole 0.4
via 4.575,-3.6 diameter 0.8 hole 0.4
via 3.375,-3.6 diameter 0.8 hole 0.4
via 6.975,-3.6 diameter 0.8 hole 0.4
via 2.175,-2.4 diameter 0.8 hole 0.4
via 0.975,-2.4 diameter 0.8 hole 0.4
via -0.225,-2.4 diameter 0.8 hole 0.4
via 5.775,-2.4 diameter 0.8 hole 0.4
via 4.575,-2.4 diameter 0.8 hole 0.4
via 3.375,-2.4 diameter 0.8 hole 0.4
via 6.975,-2.4 diameter 0.8 hole 0.4
via 2.175,-1.2 diameter 0.8 hole 0.4
via 0.975,-1.2 diameter 0.8 hole 0.4
via -0.225,-1.2 diameter 0.8 hole 0.4
via 5.775,-1.2 diameter 0.8 hole 0.4
via 4.575,-1.2 diameter 0.8 hole 0.4
via 3.375,-1.2 diameter 0.8 hole 0.4
via 6.975,-1.2 diameter 0.8 hole 0.4
via 2.175,4.8 diameter 0.8 hole 0.4
via 0.975,4.8 diameter 0.8 hole 0.4
via -0.225,4.8 diameter 0.8 hole 0.4
via 5.775,4.8 diameter 0.8 hole 0.4
via 4.575,4.8 diameter 0.8 hole 0.4
via 3.375,4.8 diameter 0.8 hole 0.4
via 6.975,4.8 diameter 0.8 hole 0.4
via 2.175,3.6 diameter 0.8 hole 0.4
via 0.975,3.6 diameter 0.8 hole 0.4
via -0.225,3.6 diameter 0.8 hole 0.4
via 5.775,3.6 diameter 0.8 hole 0.4
via 4.575,3.6 diameter 0.8 hole 0.4
via 3.375,3.6 diameter 0.8 hole 0.4
via 6.975,3.6 diameter 0.8 hole 0.4
via 2.175,2.4 diameter 0.8 hole 0.4
via 0.975,2.4 diameter 0.8 hole 0.4
via -0.225,2.4 diameter 0.8 hole 0.4
via 5.775,2.4 diameter 0.8 hole 0.4
via 4.575,2.4 diameter 0.8 hole 0.4
via 3.375,2.4 diameter 0.8 hole 0.4
via 6.975,2.4 diameter 0.8 hole 0.4
via 2.175,1.2 diameter 0.8 hole 0.4
via 0.975,1.2 diameter 0.8 hole 0.4
via -0.225,1.2 diameter 0.8 hole 0.4
via 5.775,1.2 diameter 0.8 hole 0.4
via 4.575,1.2 diameter 0.8 hole 0.4
via 3.375,1.2 diameter 0.8 hole 0.4
via 6.975,1.2 diameter 0.8 hole 0.4
via -0.225,0 diameter 0.8 hole 0.4
via 0.975,0 diameter 0.8 hole 0.4
via 6.975,0 diameter 0.8 hole 0.4
via 5.775,0 diameter 0.8 hole 0.4
via 4.575,0 diameter 0.8 hole 0.4
via 3.375,0 diameter 0.8 hole 0.4
via 2.175,0 diameter 0.8 hole 0.4
Top Overlay:
  circle w0.4: c-6.35,4 r0.2
  lines w0.2: -1.8,-5.2 -3,-5.2 -3,5.2 -1.8,5.2
Mechanical 1:
  circle w0.05: c1.875,0 r1.25
  lines w0.05: -2.75,-3.04 -2.75,-5 ; -2.75,-2.04 -2.75,-0.5 ; -2.75,0.5 -2.75,2.04 ; -2.75,3.04 -2.75,5 ; 6.319,-5 6,-4.5 ; 6.319,5 6,4.5 ; 6.5,-5 6.5,5 ; -2.75,-5 7.2,-5 7.5,-3.5 7.5,3.5 7.2,5 -2.75,5 ; -2.75,-5 -2.25,-4.5 ; -2.75,5 -2.25,4.5 ; -2.25,-4.5 6,-4.5 ; -2.25,-4.5 -2.25,4.5 ; -2.25,4.5 6,4.5 ; 6,-4.5 6,4.5 ; -7.5,-3.04 -4.5,-3.04 -4.5,-3.16 -3.5,-3.16 -3.5,-3.04 -2.618,-3.04 -2.618,-2.04 -3.5,-2.04 -3.5,-1.92 -4.5,-1.92 -4.5,-2.04 -7.5,-2.04 -7.5,-3.04 ; -7.5,-0.5 -4.5,-0.5 -4.5,-0.62 -3.5,-0.62 -3.5,-0.5 -2.618,-0.5 -2.618,0.5 -3.5,0.5 -3.5,0.62 -4.5,0.62 -4.5,0.5 -7.5,0.5 -7.5,-0.5 ; -7.5,2.04 -4.5,2.04 -4.5,1.92 -3.5,1.92 -3.5,2.04 -2.618,2.04 -2.618,3.04 -3.5,3.04 -3.5,3.16 -4.5,3.16 -4.5,3.04 -7.5,3.04 -7.5,2.04
Mechanical 15:
  lines w0.05: -8.5,-6.4 -8.5,6.4 8.5,6.4 8.5,-6.4 -8.5,-6.4
  lines w0.1: -0.5,0 0.5,0 ; 0,-0.5 0,0.5
3D body "TO-263-3_TabPin2.step": height 4.42, standoff 0, extent -7.5,-5 7.5,5

## TO-263-5 [mm] "TO-263, 6-Pads, Body 7.55x8.57mm (max), IPC Medium Density"
height 4.65
pads (6):
  rrect20% 4.26x1.32 smd: 1(-6.2,3.4) 2(-6.2,1.7) 3(-6.2,0) 4(-6.2,-1.7) 5(-6.2,-3.4)
  round 0.025 smd: 3(4.33,0)
via 7.33,3 diameter 0.6 hole 0.3
via 6.13,3 diameter 0.6 hole 0.3
via 4.93,3 diameter 0.6 hole 0.3
via 3.73,3 diameter 0.6 hole 0.3
via 2.53,3 diameter 0.6 hole 0.3
via 1.33,3 diameter 0.6 hole 0.3
via 7.33,1.8 diameter 0.6 hole 0.3
via 6.13,1.8 diameter 0.6 hole 0.3
via 4.93,1.8 diameter 0.6 hole 0.3
via 3.73,1.8 diameter 0.6 hole 0.3
via 2.53,1.8 diameter 0.6 hole 0.3
via 1.33,1.8 diameter 0.6 hole 0.3
via 7.33,-3 diameter 0.6 hole 0.3
via 6.13,-3 diameter 0.6 hole 0.3
via 4.93,-3 diameter 0.6 hole 0.3
via 3.73,-3 diameter 0.6 hole 0.3
via 2.53,-3 diameter 0.6 hole 0.3
via 1.33,-3 diameter 0.6 hole 0.3
via 7.33,-1.8 diameter 0.6 hole 0.3
via 6.13,-1.8 diameter 0.6 hole 0.3
via 4.93,-1.8 diameter 0.6 hole 0.3
via 3.73,-1.8 diameter 0.6 hole 0.3
via 2.53,-1.8 diameter 0.6 hole 0.3
via 1.33,-1.8 diameter 0.6 hole 0.3
via 7.33,-0.6 diameter 0.6 hole 0.3
via 6.13,-0.6 diameter 0.6 hole 0.3
via 4.93,-0.6 diameter 0.6 hole 0.3
via 3.73,-0.6 diameter 0.6 hole 0.3
via 2.53,-0.6 diameter 0.6 hole 0.3
via 7.33,0.6 diameter 0.6 hole 0.3
via 6.13,0.6 diameter 0.6 hole 0.3
via 4.93,0.6 diameter 0.6 hole 0.3
via 3.73,0.6 diameter 0.6 hole 0.3
via 2.53,0.6 diameter 0.6 hole 0.3
via 1.33,0.6 diameter 0.6 hole 0.3
via 1.33,-0.6 diameter 0.6 hole 0.3
Top Layer:
  region: 0.33,-4.25 5.38,-4.25 6.63,-5.5 8.33,-5.5 8.33,5.5 6.63,5.5 5.38,4.25 0.33,4.25
Top Overlay:
  circle w0.25: c-6.2,4.485 r0.125
  lines w0.2: 0,-5.2 -3,-5.2 -3,5.2 0,5.2
Mechanical 1:
  circle w0.05: c1.875,0 r1.25
  lines w0.05: -5.55,-3.8 -5.55,-3 ; -5.55,-2.1 -5.55,-1.3 ; -5.55,-0.4 -5.55,0.4 ; -5.55,1.3 -5.55,2.1 ; -5.55,3 -5.55,3.8 ; -5.3,-3.8 -5.3,-3 ; -5.3,-2.1 -5.3,-1.3 ; -5.3,-0.4 -5.3,0.4 ; -5.3,1.3 -5.3,2.1 ; -5.3,3 -5.3,3.8 ; -4.55,-3.8 -4.55,-3 ; -4.55,-2.1 -4.55,-1.3 ; -4.55,-0.4 -4.55,0.4 ; -4.55,1.3 -4.55,2.1 ; -4.55,3 -4.55,3.8 ; -2.75,-3.8 -2.75,-5 ; -2.75,-3 -2.75,-2.1 ; -2.75,-1.3 -2.75,-0.4 ; -2.75,0.4 -2.75,1.3 ; -2.75,2.1 -2.75,3 ; -2.75,3.8 -2.75,5 ; 6.319,-5 6,-4.5 ; 6.319,5 6,4.5 ; 6.5,-5 6.5,5 ; -2.75,-5 -2.25,-4.5 ; -2.75,-5 7.2,-5 7.5,-3.5 7.5,3.5 7.2,5 -2.75,5 ; -2.75,5 -2.25,4.5 ; -2.25,-4.5 -2.25,4.5 ; -2.25,-4.5 6,-4.5 ; -2.25,4.5 6,4.5 ; 6,-4.5 6,4.5 ; -7.5,-3.8 -7.5,-3 -4.5,-3 -4.5,-2.88 -3.5,-2.88 -3.5,-3 -2.618,-3 -2.618,-3.8 -3.5,-3.8 -3.5,-3.92 -4.5,-3.92 -4.5,-3.8 -7.5,-3.8 ; -7.5,-2.1 -7.5,-1.3 -4.5,-1.3 -4.5,-1.18 -3.5,-1.18 -3.5,-1.3 -2.618,-1.3 -2.618,-2.1 -3.5,-2.1 -3.5,-2.22 -4.5,-2.22 -4.5,-2.1 -7.5,-2.1 ; -7.5,-0.4 -7.5,0.4 -4.5,0.4 -4.5,0.52 -3.5,0.52 -3.5,0.4 -2.618,0.4 -2.618,-0.4 -3.5,-0.4 -3.5,-0.52 -4.5,-0.52 -4.5,-0.4 -7.5,-0.4 ; -7.5,1.3 -7.5,2.1 -4.5,2.1 -4.5,2.22 -3.5,2.22 -3.5,2.1 -2.618,2.1 -2.618,1.3 -3.5,1.3 -3.5,1.18 -4.5,1.18 -4.5,1.3 -7.5,1.3 ; -7.5,3 -7.5,3.8 -4.5,3.8 -4.5,3.92 -3.5,3.92 -3.5,3.8 -2.618,3.8 -2.618,3 -3.5,3 -3.5,2.88 -4.5,2.88 -4.5,3 -7.5,3
Mechanical 15:
  lines w0.05: -8.8,-5.8 8.6,-5.8 8.6,5.8 -8.8,5.8 -8.8,-5.8
  lines w0.1: -0.5,0 0.5,0 ; 0,-0.5 0,0.5
3D body "TO-263-5_TabPin3.step": height 4.42, standoff 0, extent -7.5,-5 7.5,5